# Altium schematic symbol library V_REG.SchLib: 1 symbol
Pins are listed as number, name and electrical type; pins without a type are passive.

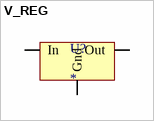
[diagram p0: symbol V_REG]

## V_REG
designator U?
pins: 1 In "Input", 2 Gnd, 3 Out